# EAGLE library part ADXL350 (library E-P-008)
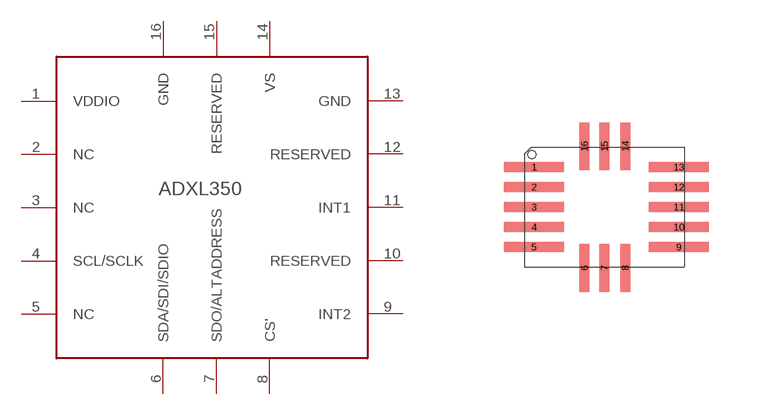
[diagram p0: symbol with the pads of LGA16; footprint LGA16]

Designator prefix -

## ADXL350  [LGA16]
1  VDDIO  in
2  NC  nc
3  NC  nc
4  SCL/SCLK  in
5  NC
6  SDA/SDI/SDIO
7  SDO/ALTADDRESS
8  CS'
9  INT2
10  RESERVED
11  INT1
12  RESERVED
13  GND
14  VS
15  RESERVED
16  GND

## Footprint LGA16 (pad centres in mm)
smd 1.5 x 0.25: 1 -1.77,0.95; 2 -1.77,0.45; 3 -1.77,-0.05; 4 -1.77,-0.55; 5 -1.77,-1.05; 9 1.85,-1.05; 10 1.85,-0.55; 11 1.85,-0.05; 12 1.85,0.45; 13 1.85,0.95
smd 0.254 x 1.2: 6 -0.51,-1.57; 7 -0.01,-1.57; 8 0.51,-1.57; 14 0.51,1.47; 15 -0.01,1.47; 16 -0.51,1.47